# Altium schematic symbol library PCB_Project_SCHparts.SchLib: 18 symbols
Pins are listed as number, name and electrical type; pins without a type are passive.

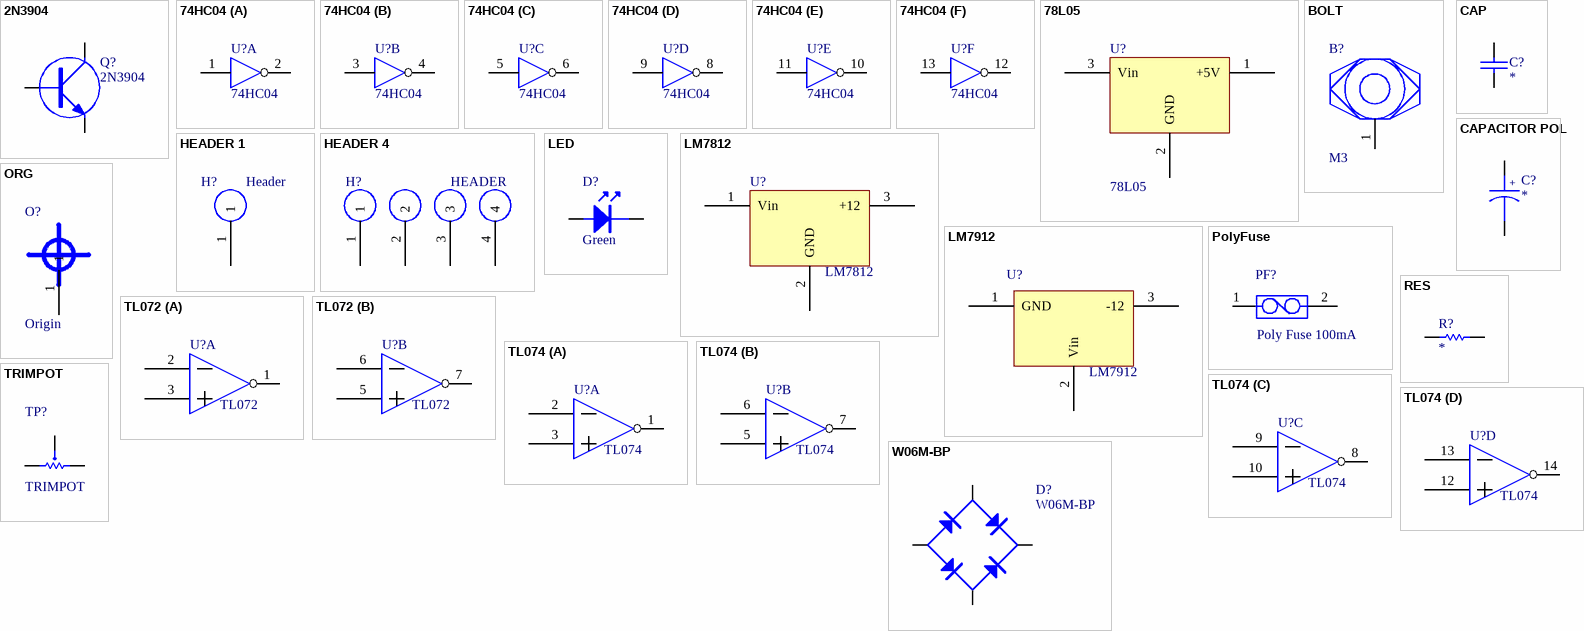
[diagram p0: symbols 2N3904 to W06M-BP]

## 2N3904
designator Q?
NPN TO92; Function: *; Voltage: *; Amps: *; Watts: *; %: *; Man No: *; Supplier: *; Supplier No: *; Cost: *; Break: *; MOQ: *; Note: *; Alternative: *
footprint TO-92
pins: 1 E, 2 B, 3 C

## 74HC04
designator U?
Hex Invertor
footprint DIP14 (74HC04 Hex Invertor)
pins on every part: 7 hidden to GND, 14 hidden to VCC
part A pins: 1, 2
part B pins: 3, 4
part C pins: 5, 6
part D pins: 8, 9
part E pins: 10, 11
part F pins: 12, 13

## 78L05
designator U?
+5V Regulator
footprint TO-92
pins: 1 +5V, 2 GND, 3 Vin

## BOLT
designator B?, comment M3
M3 Mounting Bolt
footprint BOLTM3
pins: 1

## CAP
designator C?
Non Polarized Cap; Function: *; Voltage: *; Amps: *; Watts: *; %: *; Man No: *; Supplier: *; Supplier No: *; Cost: *; Break: *; MOQ: *; Note: *; Alternative: *
footprint RAD0.1
footprint RAD0.2
pins: 1, 2

## CAPACITOR POL
designator C?
Polarized Cap; Function: *; Voltage: *; Amps: *; Watts: *; %: *; Man No: *; Supplier: *; Supplier No: *; Cost: *; Break: *; MOQ: *; Note: *; Alternative: *
footprint RB.1/.2
footprint RB.1/.2/.4
pins: 1, 2
text: +

## HEADER 1
designator H?, comment Header
Header single
footprint HEADER SINGLE
pins: 1

## HEADER 4
designator H?, comment HEADER
Header quad
footprint HEADER QUAD
pins: 1, 2, 3, 4

## LED
designator D?, comment Green
Green Led; Function: *; Voltage: *; Amps: *; Watts: *; %: *; Man No: *; Supplier: *; Supplier No: *; Cost: *; Break: *; MOQ: *; Note: *; Alternative: *
footprint LED1
pins: A Anode, K Cathode

## LM7812
designator U?
+12V Regulator
footprint TO-220
pins: 1 Vin, 2 GND "Vin", 3 +12 "Vin"

## LM7912
designator U?
-12V Regulator
footprint TO-220
pins: 1 GND, 2 Vin, 3 -12 "Vin"

## ORG
designator O?, comment Origin
PCB Origin Marker; Function: *; Voltage: *; Amps: *; Watts: *; %: *; Man No: *; Supplier: *; Supplier No: *; Cost: *; Break: *; MOQ: *; Note: *; Alternative: *
footprint OriginBottom
pins: 1

## PolyFuse
designator PF?, comment Poly Fuse 100mA
footprint Poly Fuse (Poly Fuse 100mA)
pins: 1, 2

## RES
designator R?
1/4 W Res; Function: *; Voltage: *; Amps: *; Watts: *; %: *; Man No: *; Supplier: *; Supplier No: *; Cost: *; Break: *; MOQ: *; Notes: *; Alternative: *
footprint AXIAL0.4
pins: 1, 2

## TL072
designator U?
footprint DIP8 (DUAL INLINE PACKAGE 8)
part A pins: 1, 2, 3, 4 VEE hidden to VEE, 8 VCC hidden to VCC
part B pins: 5, 6, 7

## TL074
designator U?
footprint DIP14 (74HC04 Hex Invertor)
pins on every part: 4 VCC hidden to VCC, 11 VEE hidden to VEE
part A pins: 1, 2, 3
part B pins: 5, 6, 7
part C pins: 8, 9, 10
part D pins: 12, 13, 14

## TRIMPOT
designator TP?
footprint TRIMPOT
pins: 1, 2, 3

## W06M-BP
designator D?
600V 1.5A Bridge
footprint Bridge rectifier
pins: +ve, -ve, AC1, AC2